# Altium footprint library 24CXX.PcbLib: 1 footprints
Each footprint in its own frame and in the unit in brackets; x right, y up, seen from the top. Pads: shape width x height; smd on the part's side, far side on the other; paste and mask are expansions set on the pad; w line width, h text height; cw(c..) or ccw(c..) is an arc to the next point about the centre after c.
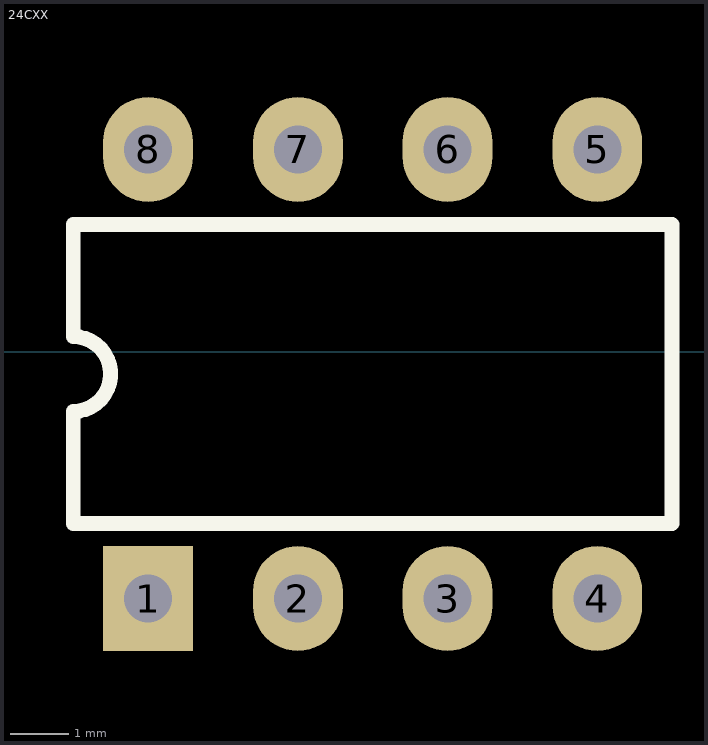
[diagram p0: the footprint, top view; thin cyan lines are the x and y axes]

## 24CXX [mil]
pads (8):
  rect 60x70 hole 32: 1(385,-165)
  oval 60x70 hole 32: 2(485,-165) 3(585,-165) 4(685,-165) 5(685,135) 6(585,135) 7(485,135) 8(385,135)
Top Overlay:
  lines w10: 335,-115 335,-40 ccw(c335,-15) 335,10 335,85 735,85 735,-115 335,-115